# EAGLE library part STM32G070C*T (library micro-stm)
Added by Aleks
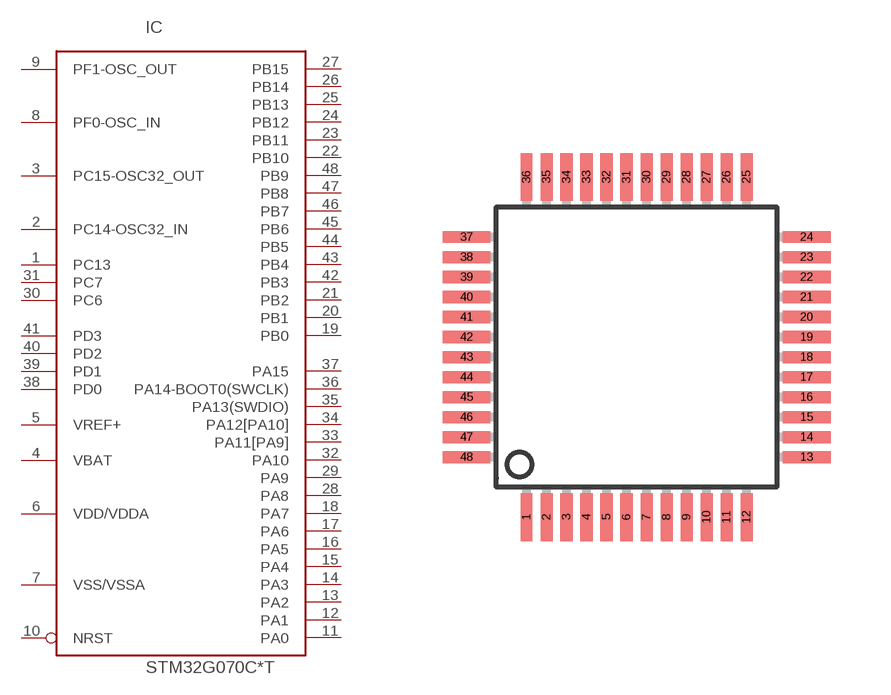
[diagram p179: symbol with the pads of LQFP48; footprint LQFP48]

Designator prefix IC

## STM32G070CT  [LQFP48]
1  PC13
2  PC14-OSC32_IN
3  PC15-OSC32_OUT
4  VBAT  pwr
5  VREF+  pwr
6  VDD/VDDA  pwr
7  VSS/VSSA  pwr
8  PF0-OSC_IN
9  PF1-OSC_OUT
10  NRST
11  PA0
12  PA1
13  PA2
14  PA3
15  PA4
16  PA5
17  PA6
18  PA7
19  PB0
20  PB1
21  PB2
22  PB10
23  PB11
24  PB12
25  PB13
26  PB14
27  PB15
28  PA8
29  PA9
30  PC6
31  PC7
32  PA10
33  PA11[PA9]
34  PA12[PA10]
35  PA13(SWDIO)
36  PA14-BOOT0(SWCLK)
37  PA15
38  PD0
39  PD1
40  PD2
41  PD3
42  PB3
43  PB4
44  PB5
45  PB6
46  PB7
47  PB8
48  PB9

## Footprint LQFP48 (pad centres in mm)
LQFP48 7 x 7 mm, 48-pin low-profile quad flat package
smd 0.3 x 1.2: 1 -2.75,-4.25; 2 -2.25,-4.25; 3 -1.75,-4.25; 4 -1.25,-4.25; 5 -0.75,-4.25; 6 -0.25,-4.25; 7 0.25,-4.25; 8 0.75,-4.25; 9 1.25,-4.25; 10 1.75,-4.25; 11 2.25,-4.25; 12 2.75,-4.25; 25 2.75,4.25; 26 2.25,4.25; 27 1.75,4.25; 28 1.25,4.25; 29 0.75,4.25; 30 0.25,4.25; 31 -0.25,4.25; 32 -0.75,4.25; 33 -1.25,4.25; 34 -1.75,4.25; 35 -2.25,4.25; 36 -2.75,4.25
smd 1.2 x 0.3: 13 4.25,-2.75; 14 4.25,-2.25; 15 4.25,-1.75; 16 4.25,-1.25; 17 4.25,-0.75; 18 4.25,-0.25; 19 4.25,0.25; 20 4.25,0.75; 21 4.25,1.25; 22 4.25,1.75; 23 4.25,2.25; 24 4.25,2.75; 37 -4.25,2.75; 38 -4.25,2.25; 39 -4.25,1.75; 40 -4.25,1.25; 41 -4.25,0.75; 42 -4.25,0.25; 43 -4.25,-0.25; 44 -4.25,-0.75; 45 -4.25,-1.25; 46 -4.25,-1.75; 47 -4.25,-2.25; 48 -4.25,-2.75